# Altium footprint library IR2184.PcbLib: 24 footprints (part 2 of 2)
Each footprint in its own frame and in the unit in brackets; x right, y up, seen from the top. Pads: shape width x height; smd on the part's side, far side on the other; paste and mask are expansions set on the pad; w line width, h text height; cw(c..) or ccw(c..) is an arc to the next point about the centre after c.
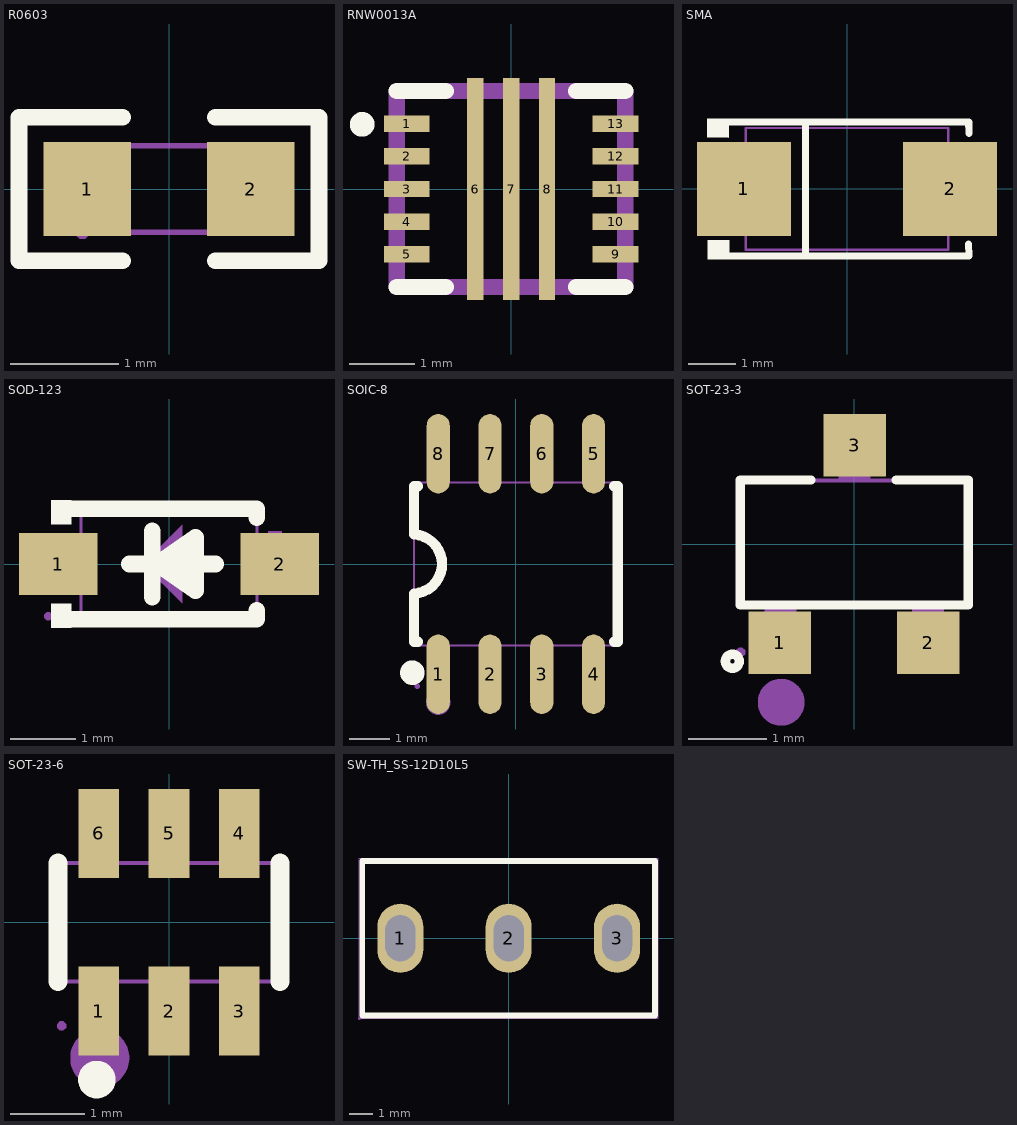
[diagram p1: the footprints below, top view; thin cyan lines are the x and y axes]

## R0603 [mm]
pads (2):
  rect 0.806x0.864 smd paste-100 mask+0.051: 1(-0.753,0) 2(0.753,0)
Top Overlay:
  lines w0.152: -0.426,-0.661 -1.385,-0.661 -1.385,0.661 -0.426,0.661 ; 0.426,-0.661 1.385,-0.661 1.385,0.661 0.426,0.661
Top Paste:
  region: -1.195,-0.45 -0.395,-0.45 -0.345,-0.4 -0.345,-0.172 -0.715,-0.172 -0.715,0.158 -0.345,0.158 -0.345,0.4 -0.395,0.45 -1.195,0.45 -1.245,0.4 -1.245,-0.4
  region: 1.195,0.45 0.395,0.45 0.345,0.4 0.345,0.172 0.715,0.172 0.715,-0.158 0.345,-0.158 0.345,-0.4 0.395,-0.45 1.195,-0.45 1.245,-0.4 1.245,0.4
Mechanical 15:
  region: 0.8,-0.4 0.8,0.4 0.5,0.4 0.5,-0.4
  region: -0.8,-0.4 -0.8,0.4 -0.5,0.4 -0.5,-0.4
  region: -0.8,-0.46 -0.775,-0.46 -0.74,-0.425 -0.74,-0.375 -0.775,-0.34 -0.8,-0.34 -0.825,-0.34 -0.86,-0.375 -0.86,-0.425 -0.825,-0.46 -0.8,-0.46
  lines w0.051: -0.8,-0.4 0.8,-0.4 0.8,0.4 -0.8,0.4 -0.8,-0.4

## RNW0013A [mm]
pads (13):
  rect 0.7x0.25 smd: 1(-1.6,1) 2(-1.6,0.5) 3(-1.6,0) 4(-1.6,-0.5) 5(-1.6,-1) 9(1.6,-1) 10(1.6,-0.5) 11(1.6,0) 12(1.6,0.5) 13(1.6,1)
  rect 0.25x3.4 smd: 6(-0.55,0) 7(0,0) 8(0.55,0)
Top Overlay:
  circle w0.25: c-2.281,0.99 r0.065
  lines w0.25: -1.75,-1.5 -1,-1.5 ; -1.75,1.5 -1,1.5 ; 1,-1.5 1.75,-1.5 ; 1,1.5 1.75,1.5
Mechanical 1:
  lines w0.25: -1.75,-1.5 1.75,-1.5 1.75,1.5 -1.75,1.5 -1.75,-1.5

## SMA [mm]
pads (2):
  rect 2x2 smd: 1(-2.2,0) 2(2.2,0)
Top Overlay:
  region: -2.52,1.502 -2.521,1.096 -2.981,1.1 -2.977,1.502
  region: -2.512,-1.096 -2.513,-1.503 -2.973,-1.498 -2.969,-1.096
  lines w0.152: -2.596,-1.426 2.596,-1.426 ; -2.596,1.426 2.596,1.426 2.603,1.187 ; -0.884,-1.426 -0.884,1.426 ; 2.593,-1.176 2.6,-1.415
Mechanical 6:
  region: -2.317,-0.101 -2.317,0.101 -1.507,0.101 -1.507,-0.101
  region: 2.29,-0.09 2.29,0.112 1.48,0.112 1.48,-0.09
  region: 2.014,-0.675 2.014,0.675 1.811,0.675 1.811,-0.675
Mechanical 15:
  region: -2.665,-1.3 -2.664,-1.324 -2.629,-1.357 -2.581,-1.357 -2.546,-1.324 -2.545,-1.3 -2.546,-1.276 -2.581,-1.242 -2.629,-1.242 -2.664,-1.276 -2.665,-1.3
  region: 2.605,0.725 2.605,-0.725 1.48,-0.725 1.48,0.725
  region: -1.48,0.725 -1.48,-0.725 -2.605,-0.725 -2.605,0.725
  lines w0.051: -2.16,-1.3 -2.16,1.3 2.16,1.3 2.16,-1.3 -2.16,-1.3

## SOD-123 [mm]
pads (2):
  rect 1.2x0.95 smd: 1(-1.7,0) 2(1.7,0)
Top Overlay:
  region: -1.502,-0.977 -1.502,-0.607 -1.806,-0.607 -1.806,-0.977
  region: -1.502,0.977 -1.502,0.607 -1.806,0.607 -1.806,0.977
  region: 0.406,-0.406 0.406,0.406 -0.178,0
  lines w0.254: -1.644,0.849 -1.643,0.85 -1.346,0.85 1.346,0.85 1.346,0.706 ; -1.639,-0.849 -1.638,-0.85 -1.346,-0.85 1.346,-0.85 1.346,-0.706 ; -0.61,0 -0.28,0 ; -0.254,-0.508 -0.254,0.508 ; 0.406,0 0.72,0 ; -0.178,0 0.406,-0.406 0.406,0.406 -0.178,0
Mechanical 6:
  region: -0.4,0 0.2,-0.6 0.2,0.6
  region: -2.042,0.124 -1.2,0.124 -1.2,-0.083 -2.042,-0.083
  region: 1.525,-0.338 1.525,0.504 1.732,0.504 1.732,-0.339
  region: 1.19,0.212 2.032,0.212 2.032,0.005 1.189,0.005
Mechanical 15:
  region: 1.5,-0.275 1.5,0.275 1.85,0.275 1.85,-0.275
  region: 1.34,-0.275 1.34,0.275 1.51,0.275 1.51,-0.275
  region: -1.85,-0.275 -1.85,0.275 -1.5,0.275 -1.5,-0.275
  region: -1.51,-0.275 -1.51,0.275 -1.34,0.275 -1.34,-0.275
  region: -1.79,-0.8 -1.79,-0.775 -1.825,-0.74 -1.875,-0.74 -1.91,-0.775 -1.91,-0.8 -1.91,-0.825 -1.875,-0.86 -1.825,-0.86 -1.79,-0.825 -1.79,-0.8
  lines w0.051: -1.35,-0.8 1.35,-0.8 1.35,0.8 -1.35,0.8 -1.35,-0.8

## SOIC-8 [mil]
pads (8):
  oval 22.38x76.78 smd: 1(-75,-106.5) 2(-25,-106.5) 3(25,-106.5) 4(75,-106.5) 5(75,106.5) 6(25,106.5) 7(-25,106.5) 8(-75,106.5)
Top Overlay:
  circle w11.81: c-100,-105 r5.91
  lines w10: -98.43,-28.61 ccw(c-99.99,0) -98.23,28.59 ; -98.42,-28.61 -98.42,-59.05 -98.42,-75 -94.83,-75 ; -98.42,28.59 -98.42,59.05 -98.42,75 -94.83,75 ; 94.83,-75 98.42,-75 98.42,-59.05 98.42,59.05 98.42,75 94.83,75
Mechanical 6:
  circle w11.81: c-75,-133.86 r5.91
Mechanical 15:
  region: -83.07,-118.11 -83.07,-85.24 -66.93,-85.24 -66.93,-118.11
  region: -83.07,-85.63 -83.07,-76.38 -66.93,-76.38 -66.93,-85.63
  region: -33.07,-118.11 -33.07,-85.24 -16.93,-85.24 -16.93,-118.11
  region: -33.07,-85.63 -33.07,-76.38 -16.93,-76.38 -16.93,-85.63
  region: 16.93,-118.11 16.93,-85.24 33.07,-85.24 33.07,-118.11
  region: 16.93,-85.63 16.93,-76.38 33.07,-76.38 33.07,-85.63
  region: 66.93,-118.11 66.93,-85.24 83.07,-85.24 83.07,-118.11
  region: 66.93,-85.63 66.93,-76.38 83.07,-76.38 83.07,-85.63
  region: -83.07,85.24 -83.07,118.11 -66.93,118.11 -66.93,85.24
  region: -83.07,76.38 -83.07,85.63 -66.93,85.63 -66.93,76.38
  region: -33.07,85.24 -33.07,118.11 -16.93,118.11 -16.93,85.24
  region: -33.07,76.38 -33.07,85.63 -16.93,85.63 -16.93,76.38
  region: 16.93,85.24 16.93,118.11 33.07,118.11 33.07,85.24
  region: 16.93,76.38 16.93,85.63 33.07,85.63 33.07,76.38
  region: 66.93,85.24 66.93,118.11 83.07,118.11 83.07,85.24
  region: 66.93,76.38 66.93,85.63 83.07,85.63 83.07,76.38
  region: -95.28,-115.75 -96.26,-115.75 -97.64,-117.13 -97.65,-119.09 -96.26,-120.47 -95.28,-120.47 -94.31,-120.48 -92.92,-119.09 -92.92,-117.14 -94.3,-115.75 -95.28,-115.75
  lines w2: -98.42,-78.74 98.42,-78.74 98.42,78.74 -98.42,78.74 -98.42,-78.74

## SOT-23-3 [mm]
pads (3):
  rect 0.8x0.8 smd paste+0 mask+0.05: 1(-0.95,-1.265) 2(0.95,-1.265) 3(0.005,1.265)
Top Overlay:
  circle w0.12: c-1.56,-1.5 r0.089
  lines w0.12: -0.553,0.82 -1.46,0.82 -1.46,-0.78 1.46,-0.78 1.46,0.82 0.54,0.82
Mechanical 6:
  circle w0.3: c-0.935,-2.025 r0.15
Mechanical 15:
  region: -1.395,-1.385 -1.396,-1.361 -1.431,-1.327 -1.479,-1.327 -1.514,-1.361 -1.515,-1.385 -1.514,-1.409 -1.479,-1.443 -1.431,-1.443 -1.396,-1.409 -1.395,-1.385
  region: 0.745,-1.025 0.745,-0.775 1.145,-0.775 1.145,-1.025
  region: 0.745,-1.385 0.745,-1.015 1.145,-1.015 1.145,-1.385
  region: -1.145,-1.025 -1.145,-0.775 -0.745,-0.775 -0.745,-1.025
  region: -1.145,-1.385 -1.145,-1.015 -0.745,-1.015 -0.745,-1.385
  region: -0.195,0.805 -0.195,1.055 0.205,1.055 0.205,0.805
  region: -0.195,1.045 -0.195,1.415 0.205,1.415 0.205,1.045
  lines w0.051: -1.455,-0.785 1.465,-0.785 1.465,0.815 -1.455,0.815 -1.455,-0.785

## SOT-23-6 [mm]
pads (6):
  rect 0.55x1.2 smd: 1(-0.95,-1.2) 2(0,-1.2) 3(0.95,-1.2) 4(0.95,1.2) 5(0,1.2) 6(-0.95,1.2)
Top Overlay:
  circle w0.254: c-0.975,-2.125 r0.127
  lines w0.254: -1.5,-0.8 -1.5,0.8 ; 1.5,-0.8 1.5,0.8
Mechanical 6:
  circle w0.4: c-0.934,-1.832 r0.2
Mechanical 15:
  region: -0.188,0.79 -0.188,1.01 0.188,1.01 0.188,0.79
  region: -0.188,1 -0.188,1.4 0.188,1.4 0.188,1
  region: -1.137,-1.01 -1.137,-0.79 -0.762,-0.79 -0.762,-1.01
  region: -1.137,-1.4 -1.137,-1 -0.762,-1 -0.762,-1.4
  region: -0.188,-1.01 -0.188,-0.79 0.188,-0.79 0.188,-1.01
  region: -0.188,-1.4 -0.188,-1 0.188,-1 0.188,-1.4
  region: 0.762,-1.01 0.762,-0.79 1.137,-0.79 1.137,-1.01
  region: 0.762,-1.4 0.762,-1 1.137,-1 1.137,-1.4
  region: 0.762,0.79 0.762,1.01 1.137,1.01 1.137,0.79
  region: 0.762,1 0.762,1.4 1.137,1.4 1.137,1
  region: -1.137,0.79 -1.137,1.01 -0.762,1.01 -0.762,0.79
  region: -1.137,1 -1.137,1.4 -0.762,1.4 -0.762,1
  region: -1.45,-1.34 -1.475,-1.34 -1.51,-1.375 -1.51,-1.425 -1.475,-1.46 -1.45,-1.46 -1.425,-1.46 -1.39,-1.425 -1.39,-1.375 -1.425,-1.34 -1.45,-1.34
  lines w0.051: -1.45,-0.8 1.45,-0.8 1.45,0.8 -1.45,0.8 -1.45,-0.8

## SW-TH_SS-12D10L5 [mm]
pads (3):
  oval 2x3 hole 1.3 slot 2 at 90 deg: 1(-4.7,0) 2(0,0) 3(4.7,0)
Top Overlay:
  lines w0.254: -6.35,-3.35 6.35,-3.35 6.35,3.35 -6.35,3.35 -6.35,-3.35
Mechanical 15:
  region: -6.417,-3.477 -6.417,-3.452 -6.452,-3.418 -6.502,-3.418 -6.537,-3.452 -6.537,-3.477 -6.537,-3.502 -6.502,-3.536 -6.452,-3.536 -6.417,-3.502 -6.417,-3.477
  region: 4.3,0.65 5.1,0.65 5.1,-0.65 4.3,-0.65
  region: -0.4,0.65 0.4,0.65 0.4,-0.65 -0.4,-0.65
  region: -5.1,0.65 -4.3,0.65 -4.3,-0.65 -5.1,-0.65
  lines w0.051: -6.477,-3.477 6.477,-3.477 6.477,3.477 -6.477,3.477 -6.477,-3.477